# Altium footprint library ES1A-E3.PcbLib: 1 footprints
Each footprint in its own frame and in the unit in brackets; x right, y up, seen from the top. Pads: shape width x height; smd on the part's side, far side on the other; paste and mask are expansions set on the pad; w line width, h text height; cw(c..) or ccw(c..) is an arc to the next point about the centre after c.
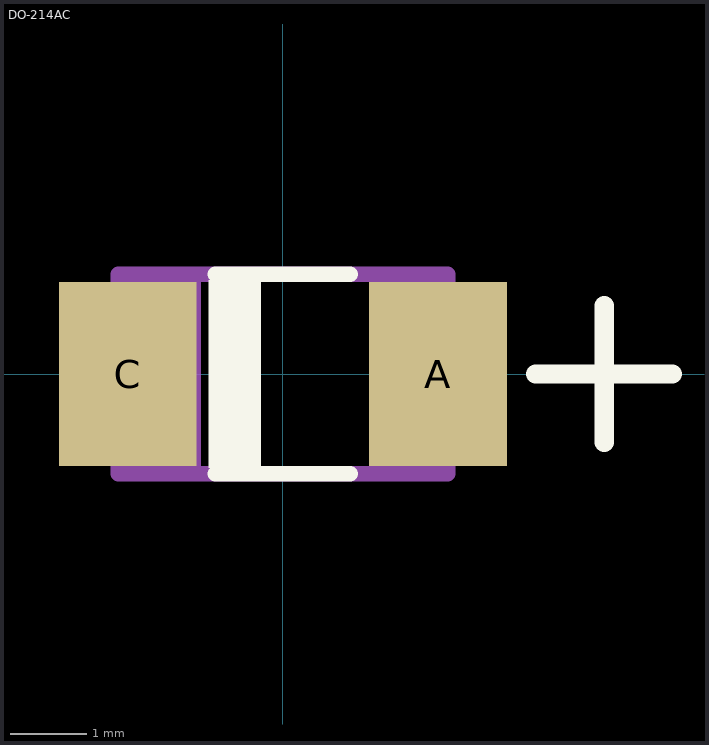
[diagram p0: the footprint, top view; thin cyan lines are the x and y axes]

## DO-214AC [mm]
pads (2):
  rect 1.8x2.4 smd: A(2.025,0) C(-2.025,0)
Top Overlay:
  region: -0.29,-1.225 -0.965,-1.225 -0.965,1.225 -0.29,1.225
  lines w0.203: -0.885,-1.3 0.875,-1.3 ; -0.885,1.3 0.875,1.3
  lines w0.254: 3.302,0 5.08,0 ; 4.191,-0.889 4.191,0.889
Mechanical 13:
  region: -1.075,-1.225 -1.75,-1.225 -1.75,1.225 -1.075,1.225
  region: 2.825,-1.1 2.175,-1.1 2.175,1.1 2.825,1.1
  region: -2.175,-1.1 -2.825,-1.1 -2.825,1.1 -2.175,1.1
  lines w0.203: -2.15,-1.3 -2.15,1.3 2.15,1.3 2.15,-1.3 -2.15,-1.3
3D body "step_temp.STEP": height 2.29, standoff 0, extent -2.553,-1.333 2.553,1.333